# Altium footprint library B82477P4334M000.PcbLib: 1 footprints
Each footprint in its own frame and in the unit in brackets; x right, y up, seen from the top. Pads: shape width x height; smd on the part's side, far side on the other; paste and mask are expansions set on the pad; w line width, h text height; cw(c..) or ccw(c..) is an arc to the next point about the centre after c.
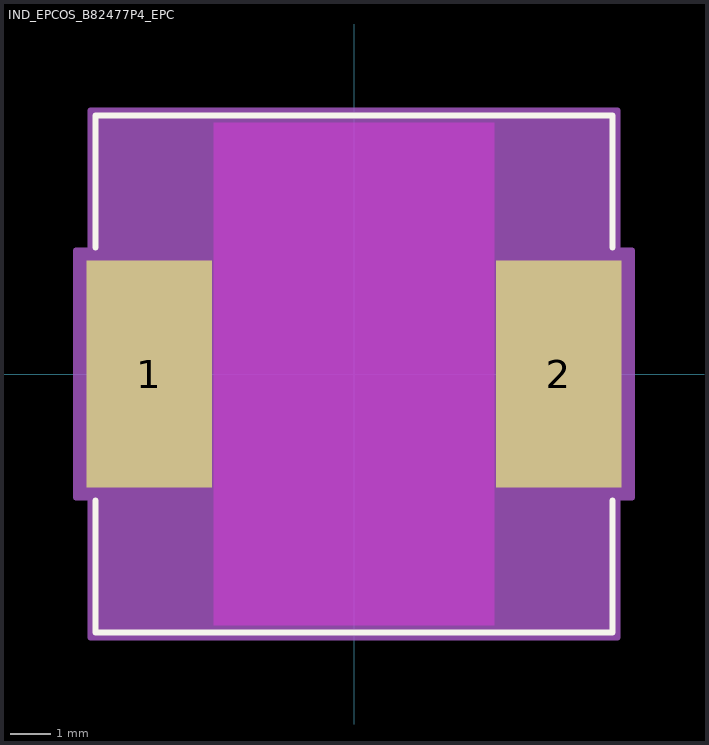
[diagram p0: the footprint, top view; thin cyan lines are the x and y axes]

## IND_EPCOS_B82477P4_EPC [mil]
pads (2):
  rect 122x220 smd paste+0 mask+0: 1(-199,0) 2(199,0)
Top Layer keep-out:
  region: -136,-244 -136,244 136,244 136,-244
Top Overlay:
  lines w6: -251,-123.1 -251,-251 251,-251 251,-123.1 ; -251,123.1 -251,251 251,251 251,123.1
Mechanical 13:
  circle w0: c-243,0 r0
  lines w1: -246,-246 246,-246 246,246 -246,246 -246,-246
Mechanical 15:
  region: -256,-120 -270,-120 -270,120 -256,120 -256,256 256,256 256,120 270,120 270,-120 256,-120 256,-256 -256,-256
  lines w6: -270,-120 -270,120 -256,120 -256,256 256,256 256,120 270,120 270,-120 256,-120 256,-256 -256,-256 -256,-120 -270,-120
3D body "IND_EPCOS_B82477P4_EPC.step": height 335, standoff 0, extent -245.98,-246.1 245.98,246.1